# Altium schematic symbol library clouds_v302.SCHLIB: 136 symbols
Pins are listed as number, name and electrical type; pins without a type are passive.

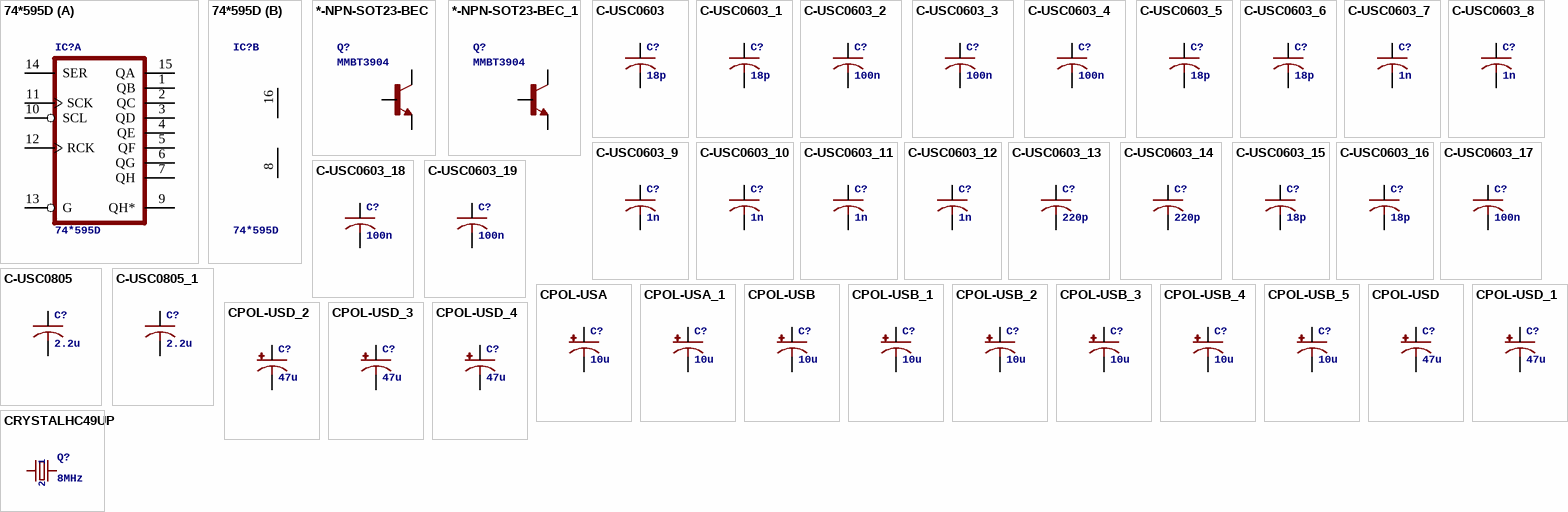
[diagram p0: symbols 74*595D to CRYSTALHC49UP]

## 74*595D
designator IC?
8-bit SHIFT REGISTER, output latch
footprint SO16
part A pins: 1 QB (hiz), 2 QC (hiz), 3 QD (hiz), 4 QE (hiz), 5 QF (hiz), 6 QG (hiz), 7 QH (hiz), 9 QH* (hiz), 10 SCL, 11 SCK, 12 RCK, 13 G, 14 SER, 15 QA (hiz)
part B pins: 8 GND (power), 16 VCC (power)

## *-NPN-SOT23-BEC
designator Q?, comment MMBT3904
NPN Transistror   BF959 corrected 2008.03.06
footprint SOT23-BEC
pins: B, C, E

## *-NPN-SOT23-BEC_1
designator Q?, comment MMBT3904
NPN Transistror   BF959 corrected 2008.03.06
footprint SOT23-BEC
pins: B, C, E

## C-USC0603
designator C?, comment 18p
CAPACITOR, American symbol
footprint C0603
pins: 1, 2

## C-USC0603_1
designator C?, comment 18p
CAPACITOR, American symbol
footprint C0603
pins: 1, 2

## C-USC0603_2
designator C?, comment 100n
CAPACITOR, American symbol
footprint C0603
pins: 1, 2

## C-USC0603_3
designator C?, comment 100n
CAPACITOR, American symbol
footprint C0603
pins: 1, 2

## C-USC0603_4
designator C?, comment 100n
CAPACITOR, American symbol
footprint C0603
pins: 1, 2

## C-USC0603_5
designator C?, comment 18p
CAPACITOR, American symbol
footprint C0603
pins: 1, 2

## C-USC0603_6
designator C?, comment 18p
CAPACITOR, American symbol
footprint C0603
pins: 1, 2

## C-USC0603_7
designator C?, comment 1n
CAPACITOR, American symbol
footprint C0603
pins: 1, 2

## C-USC0603_8
designator C?, comment 1n
CAPACITOR, American symbol
footprint C0603
pins: 1, 2

## C-USC0603_9
designator C?, comment 1n
CAPACITOR, American symbol
footprint C0603
pins: 1, 2

## C-USC0603_10
designator C?, comment 1n
CAPACITOR, American symbol
footprint C0603
pins: 1, 2

## C-USC0603_11
designator C?, comment 1n
CAPACITOR, American symbol
footprint C0603
pins: 1, 2

## C-USC0603_12
designator C?, comment 1n
CAPACITOR, American symbol
footprint C0603
pins: 1, 2

## C-USC0603_13
designator C?, comment 220p
CAPACITOR, American symbol
footprint C0603
pins: 1, 2

## C-USC0603_14
designator C?, comment 220p
CAPACITOR, American symbol
footprint C0603
pins: 1, 2

## C-USC0603_15
designator C?, comment 18p
CAPACITOR, American symbol
footprint C0603
pins: 1, 2

## C-USC0603_16
designator C?, comment 18p
CAPACITOR, American symbol
footprint C0603
pins: 1, 2

## C-USC0603_17
designator C?, comment 100n
CAPACITOR, American symbol
footprint C0603
pins: 1, 2

## C-USC0603_18
designator C?, comment 100n
CAPACITOR, American symbol
footprint C0603
pins: 1, 2

## C-USC0603_19
designator C?, comment 100n
CAPACITOR, American symbol
footprint C0603
pins: 1, 2

## C-USC0805
designator C?, comment 2.2u
CAPACITOR, American symbol
footprint C0805
pins: 1, 2

## C-USC0805_1
designator C?, comment 2.2u
CAPACITOR, American symbol
footprint C0805
pins: 1, 2

## CPOL-USA
designator C?, comment 10u
POLARIZED CAPACITOR, American symbol
footprint PANASONIC_A
pins: +, -

## CPOL-USA_1
designator C?, comment 10u
POLARIZED CAPACITOR, American symbol
footprint PANASONIC_A
pins: +, -

## CPOL-USB
designator C?, comment 10u
POLARIZED CAPACITOR, American symbol
footprint PANASONIC_B
pins: +, -

## CPOL-USB_1
designator C?, comment 10u
POLARIZED CAPACITOR, American symbol
footprint PANASONIC_B
pins: +, -

## CPOL-USB_2
designator C?, comment 10u
POLARIZED CAPACITOR, American symbol
footprint PANASONIC_B
pins: +, -

## CPOL-USB_3
designator C?, comment 10u
POLARIZED CAPACITOR, American symbol
footprint PANASONIC_B
pins: +, -

## CPOL-USB_4
designator C?, comment 10u
POLARIZED CAPACITOR, American symbol
footprint PANASONIC_B
pins: +, -

## CPOL-USB_5
designator C?, comment 10u
POLARIZED CAPACITOR, American symbol
footprint PANASONIC_B
pins: +, -

## CPOL-USD
designator C?, comment 47u
POLARIZED CAPACITOR, American symbol
footprint PANASONIC_D
pins: +, -

## CPOL-USD_1
designator C?, comment 47u
POLARIZED CAPACITOR, American symbol
footprint PANASONIC_D
pins: +, -

## CPOL-USD_2
designator C?, comment 47u
POLARIZED CAPACITOR, American symbol
footprint PANASONIC_D
pins: +, -

## CPOL-USD_3
designator C?, comment 47u
POLARIZED CAPACITOR, American symbol
footprint PANASONIC_D
pins: +, -

## CPOL-USD_4
designator C?, comment 47u
POLARIZED CAPACITOR, American symbol
footprint PANASONIC_D
pins: +, -

## CRYSTALHC49UP
designator Q?, comment 8MHz
CRYSTAL; 1: 1; 2: 2
footprint HC49UP
pins: 1, 2

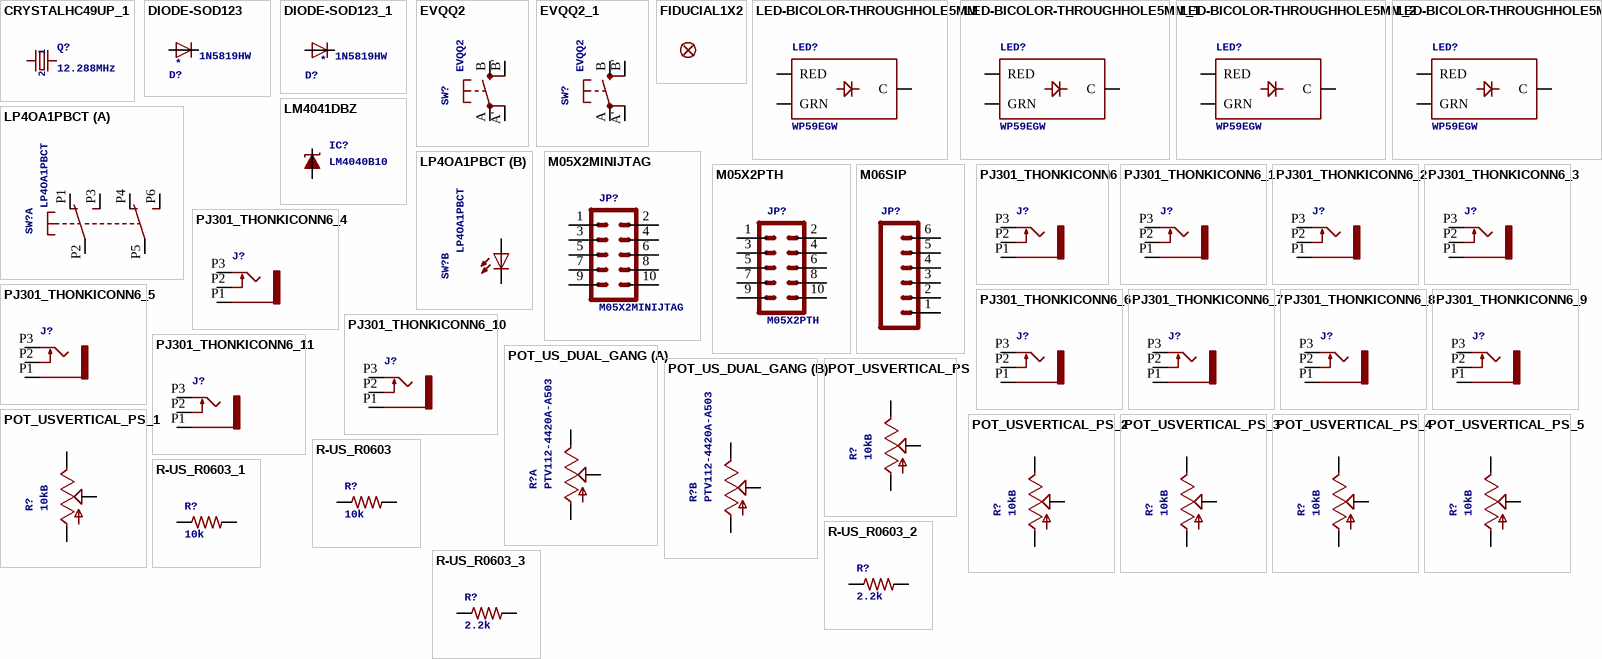
[diagram p1: symbols CRYSTALHC49UP_1 to R-US_R0603_3]

## CRYSTALHC49UP_1
designator Q?, comment 12.288MHz
CRYSTAL; 1: 1; 2: 2
footprint HC49UP
pins: 1, 2

## DIODE-SOD123
designator D?, comment 1N5819HW
DIODE; NAME: *
footprint SOD123
pins: A, C

## DIODE-SOD123_1
designator D?, comment 1N5819HW
DIODE; NAME: *
footprint SOD123
pins: A, C

## EVQQ2
designator SW?
SMT 6mm switch, EVQQ2 series    http://www.ladyada.net/library/eagle
footprint EVQ-Q2
pins: A P, A' P1, B S, B' S1

## EVQQ2_1
designator SW?, comment EVQQ2
SMT 6mm switch, EVQQ2 series    http://www.ladyada.net/library/eagle
footprint EVQ-Q2
pins: A P, A' P1, B S, B' S1

## FIDUCIAL1X2
designator F?  (value not drawn)
Fiducial Alignment PointsVarious fiducial points for machine vision alignment.
footprint FIDUCIAL-1X2

## LED-BICOLOR-THROUGHHOLE5MM
designator LED?, comment WP59EGW
footprint LED-BICOLOR-THROUGHHOLE-5MM
pins: 1 RED, 2 C, 3 GRN

## LED-BICOLOR-THROUGHHOLE5MM_1
designator LED?, comment WP59EGW
footprint LED-BICOLOR-THROUGHHOLE-5MM
pins: 1 RED, 2 C, 3 GRN

## LED-BICOLOR-THROUGHHOLE5MM_2
designator LED?, comment WP59EGW
footprint LED-BICOLOR-THROUGHHOLE-5MM
pins: 1 RED, 2 C, 3 GRN

## LED-BICOLOR-THROUGHHOLE5MM_3
designator LED?, comment WP59EGW
footprint LED-BICOLOR-THROUGHHOLE-5MM
pins: 1 RED, 2 C, 3 GRN

## LM4041DBZ
designator IC?, comment LM4040B10
PRECISION MICROPOWER SHUNT VOLTAGE REFERENCE   Source: http://focus.ti.com/lit/ds/slcs146e/slcs146e.pdf
footprint DBZ_R-PDSO-G3
pins: 1 C, 2 A

## LP4OA1PBCT
designator SW?
footprint LP4OA1PBCT
part A pins: P1 A1, P2 A2, P3 A3, P4 B1, P5 B2, P6 B3
part B pins: L1, L2

## M05X2MINIJTAG
designator JP?
Header 5x2Standard 10-pin dual row 0.1" header. Commonly used with AVR-ISP. Use with Spark Fun Electronics SKU: PRT-00778
footprint 2X5-1.27
pins: 1, 2, 3, 4, 5, 6, 7, 8, 9, 10

## M05X2PTH
designator JP?
Header 5x2Standard 10-pin dual row 0.1" header. Commonly used with AVR-ISP. Use with Spark Fun Electronics SKU: PRT-00778
footprint AVR_ICSP
pins: 1, 2, 3, 4, 5, 6, 7, 8, 9, 10

## M06SIP
designator JP?  (value not drawn)
Header 6Standard 6-pin 0.1" header. Use with straight break away headers (SKU : PRT-00116), right angle break away headers (PRT-00553), swiss pins (PRT-00743), machine pins (PRT-00117), and female headers (PRT-00115). Molex polarized connector foot print use with SKU : PRT-08094 with associated crimp pins and housings. NOTES ON THE VARIANTS LOCK and LOCK_LONGPADS... This footprint was designed to help hold the alignment of a through-hole component (i.e.  6-pin header) while soldering it into place. You may notice that each hole has been shifted either up or down by 0.005 of an inch from it's more standard position (which is a perfectly straight line). This slight alteration caused the pins (the squares in the middle) to touch the edges of the holes.  Because they are alternating, it causes a "brace" to hold the component in place.  0.005 has proven to be the perfect amount of "off-center" position when using our standard breakaway headers. Although looks a little odd when you look at the bare footprint, once you have a header in there, the alteration is very hard to notice.  Also, if you push a header all the way into place, it is covered up entirely on the bottom side.  This idea of altering the position of holes to aid alignment will be further integrated into the Sparkfun Library for other footprints.  It can help hold any component with 3 or more connection pins.
footprint 1X06
pins: 1, 2, 3, 4, 5, 6

## PJ301_THONKICONN6
designator J?  (value not drawn)
footprint WQP_PJ_301M6
pins: P1 1, P2 2, P3 3

## PJ301_THONKICONN6_1
designator J?, comment PJ301_THONKICONN6  (value not drawn)
footprint WQP_PJ_301M6
pins: P1 1, P2 2, P3 3

## PJ301_THONKICONN6_2
designator J?, comment PJ301_THONKICONN6  (value not drawn)
footprint WQP_PJ_301M6
pins: P1 1, P2 2, P3 3

## PJ301_THONKICONN6_3
designator J?, comment PJ301_THONKICONN6  (value not drawn)
footprint WQP_PJ_301M6
pins: P1 1, P2 2, P3 3

## PJ301_THONKICONN6_4
designator J?, comment PJ301_THONKICONN6  (value not drawn)
footprint WQP_PJ_301M6
pins: P1 1, P2 2, P3 3

## PJ301_THONKICONN6_5
designator J?, comment PJ301_THONKICONN6  (value not drawn)
footprint WQP_PJ_301M6
pins: P1 1, P2 2, P3 3

## PJ301_THONKICONN6_6
designator J?, comment PJ301_THONKICONN6  (value not drawn)
footprint WQP_PJ_301M6
pins: P1 1, P2 2, P3 3

## PJ301_THONKICONN6_7
designator J?, comment PJ301_THONKICONN6  (value not drawn)
footprint WQP_PJ_301M6
pins: P1 1, P2 2, P3 3

## PJ301_THONKICONN6_8
designator J?, comment PJ301_THONKICONN6  (value not drawn)
footprint WQP_PJ_301M6
pins: P1 1, P2 2, P3 3

## PJ301_THONKICONN6_9
designator J?, comment PJ301_THONKICONN6  (value not drawn)
footprint WQP_PJ_301M6
pins: P1 1, P2 2, P3 3

## PJ301_THONKICONN6_10
designator J?, comment PJ301_THONKICONN6  (value not drawn)
footprint WQP_PJ_301M6
pins: P1 1, P2 2, P3 3

## PJ301_THONKICONN6_11
designator J?, comment PJ301_THONKICONN6  (value not drawn)
footprint WQP_PJ_301M6
pins: P1 1, P2 2, P3 3

## POT_US_DUAL_GANG
designator R?, comment PTV112-4420A-A503
footprint BOURNS_PTV112
part A pins: 1P A, 2P S, 3P E
part B pins: 1 A, 2 S, 3 E

## POT_USVERTICAL_PS
designator R?, comment 10kB
footprint ALPS_POT_VERTICAL_PS
pins: P$1 E, P$2 S, P$3 A

## POT_USVERTICAL_PS_1
designator R?, comment 10kB
footprint ALPS_POT_VERTICAL_PS
pins: P$1 E, P$2 S, P$3 A

## POT_USVERTICAL_PS_2
designator R?, comment 10kB
footprint ALPS_POT_VERTICAL_PS
pins: P$1 E, P$2 S, P$3 A

## POT_USVERTICAL_PS_3
designator R?, comment 10kB
footprint ALPS_POT_VERTICAL_PS
pins: P$1 E, P$2 S, P$3 A

## POT_USVERTICAL_PS_4
designator R?, comment 10kB
footprint ALPS_POT_VERTICAL_PS
pins: P$1 E, P$2 S, P$3 A

## POT_USVERTICAL_PS_5
designator R?, comment 10kB
footprint ALPS_POT_VERTICAL_PS
pins: P$1 E, P$2 S, P$3 A

## R-US_R0603
designator R?, comment 10k
RESISTOR, American symbol
footprint R0603
pins: 1, 2

## R-US_R0603_1
designator R?, comment 10k
RESISTOR, American symbol
footprint R0603
pins: 1, 2

## R-US_R0603_2
designator R?, comment 2.2k
RESISTOR, American symbol
footprint R0603
pins: 1, 2

## R-US_R0603_3
designator R?, comment 2.2k
RESISTOR, American symbol
footprint R0603
pins: 1, 2

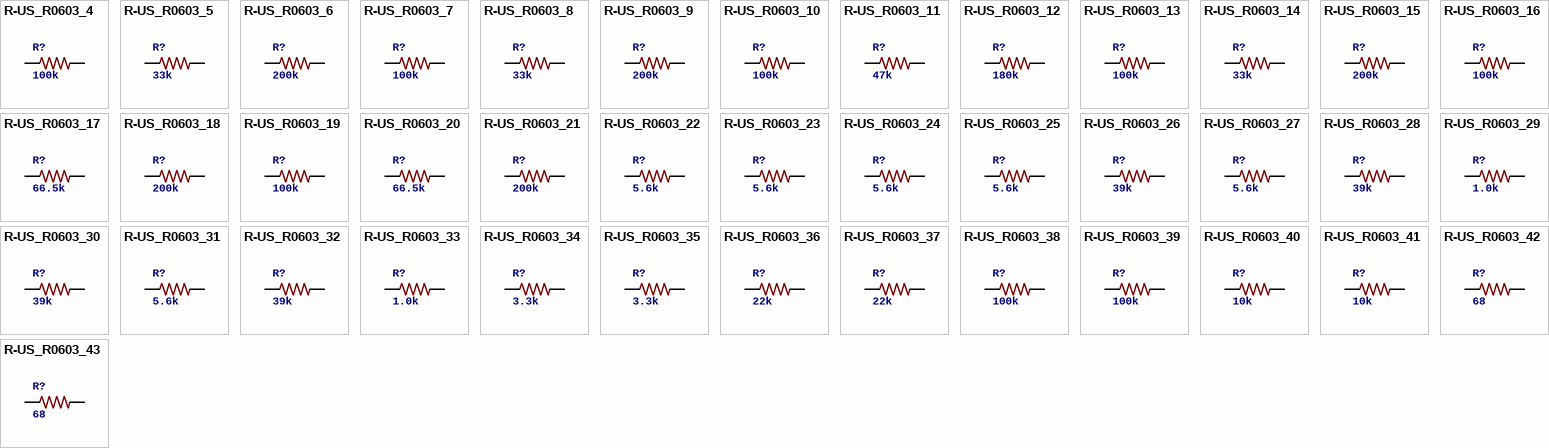
[diagram p2: symbols R-US_R0603_4 to R-US_R0603_43]

## R-US_R0603_4
designator R?, comment 100k
RESISTOR, American symbol
footprint R0603
pins: 1, 2

## R-US_R0603_5
designator R?, comment 33k
RESISTOR, American symbol
footprint R0603
pins: 1, 2

## R-US_R0603_6
designator R?, comment 200k
RESISTOR, American symbol
footprint R0603
pins: 1, 2

## R-US_R0603_7
designator R?, comment 100k
RESISTOR, American symbol
footprint R0603
pins: 1, 2

## R-US_R0603_8
designator R?, comment 33k
RESISTOR, American symbol
footprint R0603
pins: 1, 2

## R-US_R0603_9
designator R?, comment 200k
RESISTOR, American symbol
footprint R0603
pins: 1, 2

## R-US_R0603_10
designator R?, comment 100k
RESISTOR, American symbol
footprint R0603
pins: 1, 2

## R-US_R0603_11
designator R?, comment 47k
RESISTOR, American symbol
footprint R0603
pins: 1, 2

## R-US_R0603_12
designator R?, comment 180k
RESISTOR, American symbol
footprint R0603
pins: 1, 2

## R-US_R0603_13
designator R?, comment 100k
RESISTOR, American symbol
footprint R0603
pins: 1, 2

## R-US_R0603_14
designator R?, comment 33k
RESISTOR, American symbol
footprint R0603
pins: 1, 2

## R-US_R0603_15
designator R?, comment 200k
RESISTOR, American symbol
footprint R0603
pins: 1, 2

## R-US_R0603_16
designator R?, comment 100k
RESISTOR, American symbol
footprint R0603
pins: 1, 2

## R-US_R0603_17
designator R?, comment 66.5k
RESISTOR, American symbol
footprint R0603
pins: 1, 2

## R-US_R0603_18
designator R?, comment 200k
RESISTOR, American symbol
footprint R0603
pins: 1, 2

## R-US_R0603_19
designator R?, comment 100k
RESISTOR, American symbol
footprint R0603
pins: 1, 2

## R-US_R0603_20
designator R?, comment 66.5k
RESISTOR, American symbol
footprint R0603
pins: 1, 2

## R-US_R0603_21
designator R?, comment 200k
RESISTOR, American symbol
footprint R0603
pins: 1, 2

## R-US_R0603_22
designator R?, comment 5.6k
RESISTOR, American symbol
footprint R0603
pins: 1, 2

## R-US_R0603_23
designator R?, comment 5.6k
RESISTOR, American symbol
footprint R0603
pins: 1, 2

## R-US_R0603_24
designator R?, comment 5.6k
RESISTOR, American symbol
footprint R0603
pins: 1, 2

## R-US_R0603_25
designator R?, comment 5.6k
RESISTOR, American symbol
footprint R0603
pins: 1, 2

## R-US_R0603_26
designator R?, comment 39k
RESISTOR, American symbol
footprint R0603
pins: 1, 2

## R-US_R0603_27
designator R?, comment 5.6k
RESISTOR, American symbol
footprint R0603
pins: 1, 2

## R-US_R0603_28
designator R?, comment 39k
RESISTOR, American symbol
footprint R0603
pins: 1, 2

## R-US_R0603_29
designator R?, comment 1.0k
RESISTOR, American symbol
footprint R0603
pins: 1, 2

## R-US_R0603_30
designator R?, comment 39k
RESISTOR, American symbol
footprint R0603
pins: 1, 2

## R-US_R0603_31
designator R?, comment 5.6k
RESISTOR, American symbol
footprint R0603
pins: 1, 2

## R-US_R0603_32
designator R?, comment 39k
RESISTOR, American symbol
footprint R0603
pins: 1, 2

## R-US_R0603_33
designator R?, comment 1.0k
RESISTOR, American symbol
footprint R0603
pins: 1, 2

## R-US_R0603_34
designator R?, comment 3.3k
RESISTOR, American symbol
footprint R0603
pins: 1, 2

## R-US_R0603_35
designator R?, comment 3.3k
RESISTOR, American symbol
footprint R0603
pins: 1, 2

## R-US_R0603_36
designator R?, comment 22k
RESISTOR, American symbol
footprint R0603
pins: 1, 2

## R-US_R0603_37
designator R?, comment 22k
RESISTOR, American symbol
footprint R0603
pins: 1, 2

## R-US_R0603_38
designator R?, comment 100k
RESISTOR, American symbol
footprint R0603
pins: 1, 2

## R-US_R0603_39
designator R?, comment 100k
RESISTOR, American symbol
footprint R0603
pins: 1, 2

## R-US_R0603_40
designator R?, comment 10k
RESISTOR, American symbol
footprint R0603
pins: 1, 2

## R-US_R0603_41
designator R?, comment 10k
RESISTOR, American symbol
footprint R0603
pins: 1, 2

## R-US_R0603_42
designator R?, comment 68
RESISTOR, American symbol
footprint R0603
pins: 1, 2

## R-US_R0603_43
designator R?, comment 68
RESISTOR, American symbol
footprint R0603
pins: 1, 2

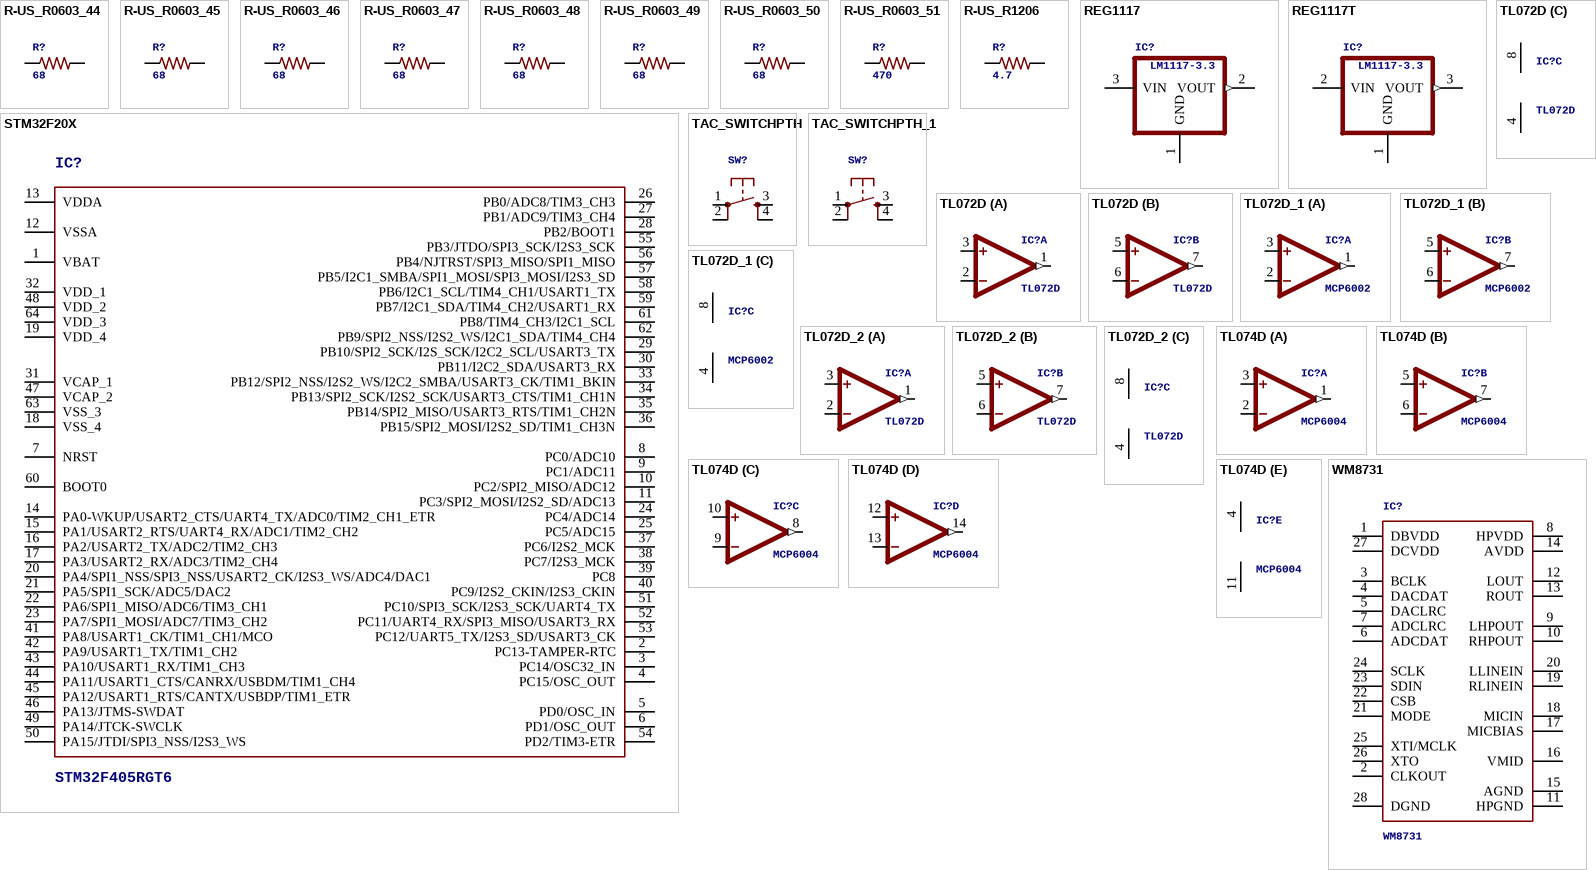
[diagram p3: symbols R-US_R0603_44 to WM8731]

## R-US_R0603_44
designator R?, comment 68
RESISTOR, American symbol
footprint R0603
pins: 1, 2

## R-US_R0603_45
designator R?, comment 68
RESISTOR, American symbol
footprint R0603
pins: 1, 2

## R-US_R0603_46
designator R?, comment 68
RESISTOR, American symbol
footprint R0603
pins: 1, 2

## R-US_R0603_47
designator R?, comment 68
RESISTOR, American symbol
footprint R0603
pins: 1, 2

## R-US_R0603_48
designator R?, comment 68
RESISTOR, American symbol
footprint R0603
pins: 1, 2

## R-US_R0603_49
designator R?, comment 68
RESISTOR, American symbol
footprint R0603
pins: 1, 2

## R-US_R0603_50
designator R?, comment 68
RESISTOR, American symbol
footprint R0603
pins: 1, 2

## R-US_R0603_51
designator R?, comment 470
RESISTOR, American symbol
footprint R0603
pins: 1, 2

## R-US_R1206
designator R?, comment 4.7
RESISTOR, American symbol
footprint R1206
pins: 1, 2

## REG1117
designator IC?, comment LM1117-3.3
800mA and 1A Low Dropout (LDO) Positive Regulator   1.8V, 2.5V, 2.85V, 3.3V, 5V, and Adj
footprint SOT223
pins: 1 GND (power), 2 VOUT (out), 3 VIN

## REG1117T
designator IC?, comment LM1117-3.3
800mA and 1A Low Dropout (LDO) Positive Regulator   1.8V, 2.5V, 2.85V, 3.3V, 5V, and Adj
footprint TO252
pins: 1 GND (power), 2 VIN, 3 VOUT (out)

## STM32F20X
designator IC?, comment STM32F405RGT6
footprint TQFP-10X10-64
pins: 1 VBAT (power), 2 PC13-TAMPER-RTC, 3 PC14/OSC32_IN, 4 PC15/OSC_OUT, 5 PD0/OSC_IN, 6 PD1/OSC_OUT, 7 NRST, 8 PC0/ADC10, 9 PC1/ADC11, 10 PC2/SPI2_MISO/ADC12, 11 PC3/SPI2_MOSI/I2S2_SD/ADC13, 12 VSSA (power), 13 VDDA (power), 14 PA0-WKUP/USART2_CTS/UART4_TX/ADC0/TIM2_CH1_ETR, 15 PA1/USART2_RTS/UART4_RX/ADC1/TIM2_CH2, 16 PA2/USART2_TX/ADC2/TIM2_CH3, 17 PA3/USART2_RX/ADC3/TIM2_CH4, 18 VSS_4 (power), 19 VDD_4 (power), 20 PA4/SPI1_NSS/SPI3_NSS/USART2_CK/I2S3_WS/ADC4/DAC1, 21 PA5/SPI1_SCK/ADC5/DAC2, 22 PA6/SPI1_MISO/ADC6/TIM3_CH1, 23 PA7/SPI1_MOSI/ADC7/TIM3_CH2, 24 PC4/ADC14, 25 PC5/ADC15, 26 PB0/ADC8/TIM3_CH3, 27 PB1/ADC9/TIM3_CH4, 28 PB2/BOOT1, 29 PB10/SPI2_SCK/I2S_SCK/I2C2_SCL/USART3_TX, 30 PB11/I2C2_SDA/USART3_RX, 31 VCAP_1 (power), 32 VDD_1 (power), 33 PB12/SPI2_NSS/I2S2_WS/I2C2_SMBA/USART3_CK/TIM1_BKIN, 34 PB13/SPI2_SCK/I2S2_SCK/USART3_CTS/TIM1_CH1N, 35 PB14/SPI2_MISO/USART3_RTS/TIM1_CH2N, 36 PB15/SPI2_MOSI/I2S2_SD/TIM1_CH3N, 37 PC6/I2S2_MCK, 38 PC7/I2S3_MCK, 39 PC8, 40 PC9/I2S2_CKIN/I2S3_CKIN, 41 PA8/USART1_CK/TIM1_CH1/MCO, 42 PA9/USART1_TX/TIM1_CH2, 43 PA10/USART1_RX/TIM1_CH3, 44 PA11/USART1_CTS/CANRX/USBDM/TIM1_CH4, 45 PA12/USART1_RTS/CANTX/USBDP/TIM1_ETR, 46 PA13/JTMS-SWDAT, 47 VCAP_2 (power), 48 VDD_2 (power), 49 PA14/JTCK-SWCLK, 50 PA15/JTDI/SPI3_NSS/I2S3_WS, 51 PC10/SPI3_SCK/I2S3_SCK/UART4_TX, 52 PC11/UART4_RX/SPI3_MISO/USART3_RX, 53 PC12/UART5_TX/I2S3_SD/USART3_CK, 54 PD2/TIM3-ETR, 55 PB3/JTDO/SPI3_SCK/I2S3_SCK, 56 PB4/NJTRST/SPI3_MISO/SPI1_MISO, 57 PB5/I2C1_SMBA/SPI1_MOSI/SPI3_MOSI/I2S3_SD, 58 PB6/I2C1_SCL/TIM4_CH1/USART1_TX, 59 PB7/I2C1_SDA/TIM4_CH2/USART1_RX, 60 BOOT0, 61 PB8/TIM4_CH3/I2C1_SCL, 62 PB9/SPI2_NSS/I2S2_WS/I2C1_SDA/TIM4_CH4, 63 VSS_3 (power), 64 VDD_3 (power)

## TAC_SWITCHPTH
designator SW?  (value not drawn)
Momentary SwitchButton commonly used for reset or general input. Spark Fun Electronics SKU : COM-00097
footprint TACTILE-PTH
pins: 1, 2, 3, 4

## TAC_SWITCHPTH_1
designator SW?, comment TAC_SWITCHPTH  (value not drawn)
Momentary SwitchButton commonly used for reset or general input. Spark Fun Electronics SKU : COM-00097
footprint TACTILE-PTH
pins: 1, 2, 3, 4

## TL072D
designator IC?
OP AMP
footprint SO08
part A pins: 1 OUT (out), 2 -IN, 3 +IN
part B pins: 5 +IN, 6 -IN, 7 OUT (out)
part C pins: 4 V- (power), 8 V+ (power)

## TL072D_1
designator IC?, comment MCP6002
OP AMP
footprint SO08
part A pins: 1 OUT (out), 2 -IN, 3 +IN
part B pins: 5 +IN, 6 -IN, 7 OUT (out)
part C pins: 4 V- (power), 8 V+ (power)

## TL072D_2
designator IC?, comment TL072D
OP AMP
footprint SO08
part A pins: 1 OUT (out), 2 -IN, 3 +IN
part B pins: 5 +IN, 6 -IN, 7 OUT (out)
part C pins: 4 V- (power), 8 V+ (power)

## TL074D
designator IC?, comment MCP6004
OP AMP
footprint SO14
part A pins: 1 OUT (out), 2 -IN, 3 +IN
part B pins: 5 +IN, 6 -IN, 7 OUT (out)
part C pins: 8 OUT (out), 9 -IN, 10 +IN
part D pins: 12 +IN, 13 -IN, 14 OUT (out)
part E pins: 4 V+ (power), 11 V- (power)

## WM8731
designator IC?
WM8731: WM8731
footprint SSOP28
pins: 1 DBVDD, 2 CLKOUT, 3 BCLK, 4 DACDAT, 5 DACLRC, 6 ADCDAT, 7 ADCLRC, 8 HPVDD, 9 LHPOUT, 10 RHPOUT, 11 HPGND, 12 LOUT, 13 ROUT, 14 AVDD, 15 AGND, 16 VMID, 17 MICBIAS, 18 MICIN, 19 RLINEIN, 20 LLINEIN, 21 MODE, 22 CSB, 23 SDIN, 24 SCLK, 25 XTI/MCLK, 26 XTO, 27 DCVDD, 28 DGND